# Altium footprint library PCB2021.01270750.PcbLib: 52 footprints (part 3 of 4)
Each footprint in its own frame and in the unit in brackets; x right, y up, seen from the top. Pads: shape width x height; smd on the part's side, far side on the other; paste and mask are expansions set on the pad; w line width, h text height; cw(c..) or ccw(c..) is an arc to the next point about the centre after c.
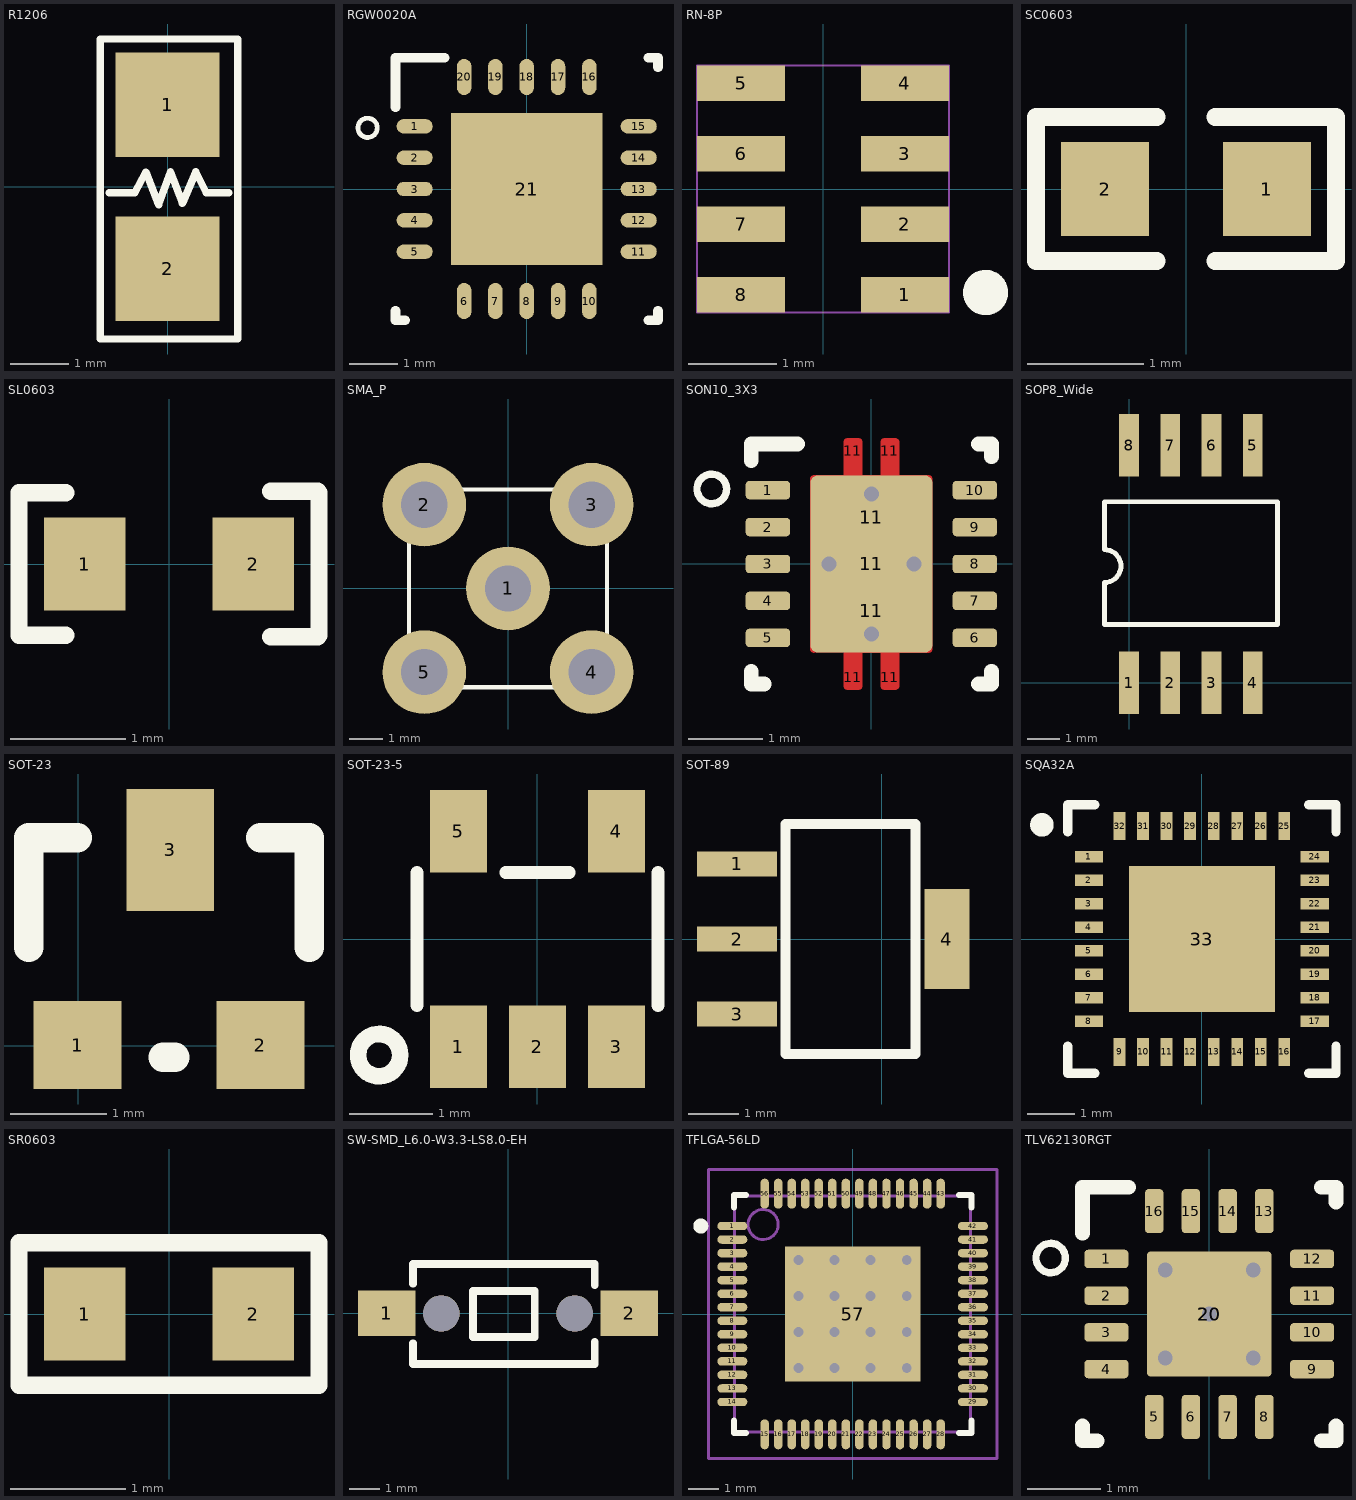
[diagram p2: the footprints below, top view; thin cyan lines are the x and y axes]

## R1206 [mil]
pads (2):
  rect 70x70 smd: 1(0,55) 2(0,-55)
Top Overlay:
  lines w5: -39,-4 -21.87,-4 -14.52,9.77 -6,-12 2,10 10,-11 19,10 26,-4 41,-4 ; -45,-102 -45,99 47,99 47,-102 -45,-102

## RGW0020A [mm]
pads (21):
  oval 0.75x0.3 smd paste+0 mask+0.051: 1(-2.325,1.3) 2(-2.325,0.65) 3(-2.325,0) 4(-2.325,-0.65) 5(-2.325,-1.3) 11(2.325,-1.3) 12(2.325,-0.65) 13(2.325,0) 14(2.325,0.65) 15(2.325,1.3)
  oval 0.3x0.75 smd paste+0 mask+0.051: 6(-1.3,-2.325) 7(-0.65,-2.325) 8(0,-2.325) 9(0.65,-2.325) 10(1.3,-2.325) 16(1.3,2.325) 17(0.65,2.325) 18(0,2.325) 19(-0.65,2.325) 20(-1.3,2.325)
  rect 3.15x3.15 smd paste-1.562 mask+0.051: 21(0,0)
Top Overlay:
  circle w0.1: c-3.302,1.27 r0.2
  lines w0.2: -2.725,-2.525 -2.725,-2.725 -2.525,-2.725 ; -2.725,1.7 -2.725,2.725 -1.7,2.725 ; 2.525,-2.725 2.725,-2.725 2.725,-2.525 ; 2.525,2.725 2.725,2.725 2.725,2.525
Top Paste:
  region: 0.1,-0.1 0.1,-1.468 1.468,-1.468 1.468,-0.1
  region: -0.1,-1.468 -0.1,-0.1 -1.468,-0.1 -1.468,-1.468
  region: -0.1,0.1 -0.1,1.468 -1.468,1.468 -1.468,0.1
  region: 0.1,1.468 0.1,0.1 1.468,0.1 1.468,1.468

## RN-8P [mm] "RN-8P"
height 1.1
pads (8):
  rect 1x0.4 smd: 1(0.929,-1.2) 2(0.929,-0.4) 3(0.929,0.4) 4(0.929,1.2) 5(-0.929,1.2) 6(-0.929,0.4) 7(-0.929,-0.4) 8(-0.929,-1.2)
Top Overlay:
  circle w0.254: c1.844,-1.174 r0.13
Mechanical 8:
  text "5" at -0.929,1.454 h0.64
  text "7" at -0.929,-0.146 h0.64
  text "1" at 0.929,-0.946 h0.64
  text "2" at 0.929,-0.146 h0.64
  text "3" at 0.929,0.654 h0.64
  text "4" at 0.929,1.454 h0.64
  text "6" at -0.929,0.654 h0.64
  text "8" at -0.929,-0.946 h0.64
Mechanical 10:
  lines w0.025: -1.429,-1.4 -1.429,1.4 1.429,1.4 1.429,-1.4 -1.429,-1.4
Mechanical 11:
  lines w0.025: -1.429,-1.4 -1.429,1.4 1.429,1.4 1.429,-1.4 -1.429,-1.4

## SC0603 [mil]
pads (2):
  rect 30x32 smd: 1(27.5,0) 2(-27.5,0)
Top Overlay:
  lines w6: -10,-24.5 -51,-24.5 -51,18.5 -51,24.5 -10,24.5 ; 10,-24.5 51,-24.5 51,-18.5 51,24.5 10,24.5

## SL0603 [mil]
pads (2):
  rect 28x32 smd: 1(-29,0) 2(29,0)
Top Overlay:
  lines w6: -35.5,-24.5 -51.5,-24.5 -51.5,-18.5 -51.5,24.5 -35.5,24.5 ; 35,-25 51,-25 ; 35,25 51,25 ; 51.5,-24.5 51.5,-18.5 51.5,24.5

## SMA_P [mm] "SMA_P"
height 5.842
pads (5):
  round 2.54 hole 1.4: 1(0,0) 2(-2.54,2.54) 3(2.54,2.54) 4(2.54,-2.54) 5(-2.54,-2.54)
Top Overlay:
  lines w0.127: -3,-3 -3,3 3,3 3,-3 -3,-3
Mechanical 9:
  text "1" at -0.254,0 h0.81
  text "3" at 2.286,2.54 h0.81
  text "2" at -2.794,2.54 h0.81
  text "4" at 2.286,-2.54 h0.81
  text "5" at -2.794,-2.54 h0.81

## SON10_3X3 [mm] "SON10_3X3"
pads (17):
  rrect40% 0.6x0.25 smd: 1(-1.4,1) 2(-1.4,0.5) 3(-1.4,0) 4(-1.4,-0.5) 5(-1.4,-1) 6(1.4,-1) 7(1.4,-0.5) 8(1.4,0) 9(1.4,0.5) 10(1.4,1)
  rrect50% 0.25x0.34 on Top Paste: 11(-0.25,1.53) 11(-0.25,-1.53) 11(0.25,-1.53) 11(0.25,1.53)
  rrect50% 1.5x1.06 on Top Paste: 11(0,-0.63) 11(0,0.63)
  rrect12% 1.65x2.4 smd paste-1 mask-2: 11(0,0)
via 0.575,0 diameter 0.406 hole 0.203
via -0.575,0 diameter 0.406 hole 0.203
via 0,0.95 diameter 0.406 hole 0.203
via 0,-0.95 diameter 0.406 hole 0.203
Top Layer:
  region: -0.775,-1.2 -0.375,-1.2 -0.375,-1.65 -0.375,-1.66 -0.367,-1.678 -0.353,-1.692 -0.335,-1.7 -0.325,-1.7 -0.175,-1.7 -0.165,-1.7 -0.147,-1.692 -0.133,-1.678 -0.125,-1.66 -0.125,-1.65 -0.125,-1.2 0.125,-1.2 0.125,-1.65 0.125,-1.66 0.133,-1.678 0.147,-1.692 0.165,-1.7 0.175,-1.7 0.325,-1.7 0.335,-1.7 0.353,-1.692 0.367,-1.678 0.375,-1.66 0.375,-1.65 0.375,-1.2 0.775,-1.2 0.785,-1.2 0.803,-1.192 0.817,-1.178 0.825,-1.16 0.825,-1.15 0.825,1.15 0.825,1.16 0.817,1.178 0.803,1.192 0.785,1.2 0.775,1.2 0.375,1.2 0.375,1.65 0.375,1.66 0.367,1.678 0.353,1.692 0.335,1.7 0.325,1.7 0.175,1.7 0.165,1.7 0.147,1.692 0.133,1.678 0.125,1.66 0.125,1.65 0.125,1.2 -0.125,1.2 -0.125,1.65 -0.125,1.66 -0.133,1.678 -0.147,1.692 -0.165,1.7 -0.175,1.7 -0.325,1.7 -0.335,1.7 -0.353,1.692 -0.367,1.678 -0.375,1.66 -0.375,1.65 -0.375,1.2 -0.775,1.2 -0.785,1.2 -0.803,1.192 -0.817,1.178 -0.825,1.16 -0.825,1.15 -0.825,-1.15 -0.825,-1.16 -0.817,-1.178 -0.803,-1.192 -0.785,-1.2
Top Overlay:
  circle w0.1: c-2.159,1.016 r0.2
  lines w0.2: -1.625,-1.45 -1.625,-1.625 -1.45,-1.625 ; -1.625,1.4 -1.625,1.625 -1,1.625 ; 1.45,-1.625 1.625,-1.625 1.625,-1.45 ; 1.45,1.625 1.625,1.625 1.625,1.45

## SOP8_Wide [mil]
pads (8):
  rect 24x76 smd: 1(0,0) 2(50,0) 3(100,0) 4(150,0) 5(150,287.99) 6(100,287.99) 7(50,287.99) 8(0,287.99)
Top Overlay:
  lines w6: 180,218.5 180,70.5 150,70.5 -30,70.5 -30,121.5 ccw(c-30,141.5) -30,161.5 -30,219.5 180,219.5

## SOT-23 [mil]
pads (3):
  rect 36x36 smd: 1(-0.25,0.3) 2(74.75,0.3)
  rect 36x50 smd: 3(37.75,80.3)
Top Overlay:
  lines w12: -20.25,40.3 -20.25,85.3 -0.25,85.3 ; 34.75,-4.7 39.75,-4.7 ; 74.75,85.3 94.75,85.3 94.75,40.3

## SOT-23-5 [mil] "SOT-23-5"
pads (5):
  rect 27x39 smd: 1(-37.4,-50.98) 2(0,-50.98) 3(37.4,-50.98) 4(37.4,50.98) 5(-37.4,50.98)
Top Overlay:
  circle w7.87: c-75,-55 r10
  lines w6: -57.09,-31.5 -57.09,31.5 ; -15,31.5 15,31.5 ; 57.09,-31.5 57.09,31.5

## SOT-89 [mm] "SOT-89,small package of SOT-23"
height 3
pads (4):
  rect 1.6x0.5 smd: 1(-2.889,1.5) 2(-2.889,0) 3(-2.889,-1.5)
  rect 0.9x2 smd: 4(1.3,0)
Top Overlay:
  lines w0.2: -1.924,-2.3 0.676,-2.3 0.676,2.3 -1.924,2.3 -1.924,-2.3

## SQA32A [mm] "QFN, 32-Leads, Body 5x5mm, Pitch 0.5mm, NSC Recommended"
height 0.8
pads (33):
  rect 0.6x0.25 smd paste-0.125 mask+0.051: 1(-2.4,1.75) 2(-2.4,1.25) 3(-2.4,0.75) 4(-2.4,0.25) 5(-2.4,-0.25) 6(-2.4,-0.75) 7(-2.4,-1.25) 8(-2.4,-1.75) 17(2.4,-1.75) 18(2.4,-1.25) 19(2.4,-0.75) 20(2.4,-0.25) 21(2.4,0.25) 22(2.4,0.75) 23(2.4,1.25) 24(2.4,1.75)
  rect 0.25x0.6 smd paste-0.125 mask+0.051: 9(-1.75,-2.4) 10(-1.25,-2.4) 11(-0.75,-2.4) 12(-0.25,-2.4) 13(0.25,-2.4) 14(0.75,-2.4) 15(1.25,-2.4) 16(1.75,-2.4) 25(1.75,2.4) 26(1.25,2.4) 27(0.75,2.4) 28(0.25,2.4) 29(-0.25,2.4) 30(-0.75,2.4) 31(-1.25,2.4) 32(-1.75,2.4)
  rect 3.1x3.1 smd paste-1.55 mask+0.051: 33(0,0)
Top Overlay:
  circle w0.25: c-3.4,2.425 r0.125
  lines w0.2: -2.85,-2.275 -2.85,-2.85 -2.275,-2.85 ; -2.85,2.275 -2.85,2.85 -2.275,2.85 ; 2.275,-2.85 2.85,-2.85 2.85,-2.275 ; 2.275,2.85 2.85,2.85 2.85,2.275
Top Paste:
  region: 1.876,2.101 1.876,2.701 1.626,2.701 1.626,2.101
  region: 1.376,2.101 1.376,2.701 1.126,2.701 1.126,2.101
  region: 0.876,2.101 0.876,2.701 0.626,2.701 0.626,2.101
  region: 0.376,2.101 0.376,2.701 0.126,2.701 0.126,2.101
  region: -0.124,2.101 -0.124,2.701 -0.374,2.701 -0.374,2.101
  region: -0.624,2.101 -0.624,2.701 -0.874,2.701 -0.874,2.101
  region: -1.124,2.101 -1.124,2.701 -1.374,2.701 -1.374,2.101
  region: -1.624,2.101 -1.624,2.701 -1.874,2.701 -1.874,2.101
  rectangle: -2.699,1.624 -2.099,1.874
  rectangle: -2.699,1.124 -2.099,1.374
  rectangle: -2.699,0.624 -2.099,0.874
  rectangle: -2.699,0.124 -2.099,0.374
  rectangle: -2.699,-0.376 -2.099,-0.126
  rectangle: -2.699,-0.876 -2.099,-0.626
  rectangle: -2.699,-1.376 -2.099,-1.126
  rectangle: -2.699,-1.876 -2.099,-1.626
  region: -1.876,-2.101 -1.876,-2.701 -1.626,-2.701 -1.626,-2.101
  region: -1.376,-2.101 -1.376,-2.701 -1.126,-2.701 -1.126,-2.101
  region: -0.876,-2.101 -0.876,-2.701 -0.626,-2.701 -0.626,-2.101
  region: -0.376,-2.101 -0.376,-2.701 -0.126,-2.701 -0.126,-2.101
  region: 0.124,-2.101 0.124,-2.701 0.374,-2.701 0.374,-2.101
  region: 0.624,-2.101 0.624,-2.701 0.874,-2.701 0.874,-2.101
  region: 1.124,-2.101 1.124,-2.701 1.374,-2.701 1.374,-2.101
  region: 1.624,-2.101 1.624,-2.701 1.874,-2.701 1.874,-2.101
  region: 2.699,-1.624 2.099,-1.624 2.099,-1.874 2.699,-1.874
  region: 2.699,-1.124 2.099,-1.124 2.099,-1.374 2.699,-1.374
  region: 2.699,-0.624 2.099,-0.624 2.099,-0.874 2.699,-0.874
  region: 2.699,-0.124 2.099,-0.124 2.099,-0.374 2.699,-0.374
  region: 2.699,0.376 2.099,0.376 2.099,0.126 2.699,0.126
  region: 2.699,0.876 2.099,0.876 2.099,0.626 2.699,0.626
  region: 2.699,1.376 2.099,1.376 2.099,1.126 2.699,1.126
  region: 2.699,1.876 2.099,1.876 2.099,1.626 2.699,1.626
  rectangle: 0.1,0.1 1.4,1.4
  region: -0.1,1.4 -1.4,1.4 -1.4,0.1 -0.1,0.1
  region: -0.1,-0.1 -1.4,-0.1 -1.4,-1.4 -0.1,-1.4
  rectangle: 0.1,-1.4 1.4,-0.1

## SR0603 [mil]
pads (2):
  rect 28x32 smd: 1(-29,0) 2(29,0)
Top Overlay:
  lines w6: -51.5,-24.5 -51.5,-18.5 -51.5,24.5 45.5,24.5 51.5,24.5 51.5,-18.5 51.5,-24.5 45.5,-24.5 -51.5,-24.5

## SW-SMD_L6.0-W3.3-LS8.0-EH [mm]
pads (4):
  rect 1.9x1.5 smd: 1(-4,0) 2(4,0)
  round 1.2 hole 1.2 unplated: ""(-2.2,0) ""(2.2,0)
Top Overlay:
  lines w0.254: -3.137,-0.981 -3.137,-1.668 2.863,-1.668 2.863,-0.935 ; -3.137,0.981 -3.137,1.632 2.863,1.632 2.863,0.935 ; -1.153,-0.78 -1.153,0.744 0.879,0.744 0.879,-0.78 -1.153,-0.78

## TFLGA-56LD [mm] "QFN, 56-Leads, Body 7.8x7.8mm (max), Pitch 0.45mm, IPC Medium Density"
height 0.9
pads (57):
  oval 1x0.28 smd: 1(-4,2.925) 2(-4,2.475) 3(-4,2.025) 4(-4,1.575) 5(-4,1.125) 6(-4,0.675) 7(-4,0.225) 8(-4,-0.225) 9(-4,-0.675) 10(-4,-1.125) 11(-4,-1.575) 12(-4,-2.025) 13(-4,-2.475) 14(-4,-2.925) 29(4,-2.925) 30(4,-2.475) 31(4,-2.025) 32(4,-1.575) 33(4,-1.125) 34(4,-0.675) 35(4,-0.225) 36(4,0.225) 37(4,0.675) 38(4,1.125) 39(4,1.575) 40(4,2.025) 41(4,2.475) 42(4,2.925)
  oval 0.28x1 smd: 15(-2.925,-4) 16(-2.475,-4) 17(-2.025,-4) 18(-1.575,-4) 19(-1.125,-4) 20(-0.675,-4) 21(-0.225,-4) 22(0.225,-4) 23(0.675,-4) 24(1.125,-4) 25(1.575,-4) 26(2.025,-4) 27(2.475,-4) 28(2.925,-4) 43(2.925,4) 44(2.475,4) 45(2.025,4) 46(1.575,4) 47(1.125,4) 48(0.675,4) 49(0.225,4) 50(-0.225,4) 51(-0.675,4) 52(-1.125,4) 53(-1.575,4) 54(-2.025,4) 55(-2.475,4) 56(-2.925,4)
  rect 4.5x4.5 smd: 57(0,0)
via 1.8,-1.8 diameter 0.66 hole 0.33
via 0.6,-1.8 diameter 0.66 hole 0.33
via -0.6,-1.8 diameter 0.66 hole 0.33
via -1.8,-1.8 diameter 0.66 hole 0.33
via 1.8,-0.6 diameter 0.66 hole 0.33
via 0.6,-0.6 diameter 0.66 hole 0.33
via -0.6,-0.6 diameter 0.66 hole 0.33
via -1.8,-0.6 diameter 0.66 hole 0.33
via 1.8,0.6 diameter 0.66 hole 0.33
via 0.6,0.6 diameter 0.66 hole 0.33
via -0.6,0.6 diameter 0.66 hole 0.33
via -1.8,0.6 diameter 0.66 hole 0.33
via 1.8,1.8 diameter 0.66 hole 0.33
via 0.6,1.8 diameter 0.66 hole 0.33
via -0.6,1.8 diameter 0.66 hole 0.33
via -1.8,1.8 diameter 0.66 hole 0.33
Top Overlay:
  circle w0.25: c-5.05,2.925 r0.125
  lines w0.2: -3.95,-3.54 -3.95,-3.95 -3.54,-3.95 ; -3.95,3.54 -3.95,3.95 -3.54,3.95 ; 3.54,-3.95 3.95,-3.95 3.95,-3.54 ; 3.54,3.95 3.95,3.95 3.95,3.54
Mechanical 13:
  circle w0.1: c-2.975,2.975 r0.5
  lines w0.1: -3.925,-3.925 3.925,-3.925 3.925,3.925 -3.925,3.925 -3.925,-3.925
Mechanical 15:
  lines w0.1: -0.5,0 0.5,0 ; 0,-0.5 0,0.5 ; -4.8,-4.8 4.8,-4.8 4.8,4.8 -4.8,4.8 -4.8,-4.8
3D body: height 0.9, standoff 0.2, extent -3.925,-3.925 3.925,3.925

## TLV62130RGT [mm] "TLV62130RGT"
pads (18):
  rrect40% 0.6x0.25 smd: 1(-1.4,0.75) 2(-1.4,0.25) 3(-1.4,-0.25) 4(-1.4,-0.75) 9(1.4,-0.75) 10(1.4,-0.25) 11(1.4,0.25) 12(1.4,0.75)
  rrect40% 0.25x0.6 smd: 5(-0.75,-1.4) 6(-0.25,-1.4) 7(0.25,-1.4) 8(0.75,-1.4) 13(0.75,1.4) 14(0.25,1.4) 15(-0.25,1.4) 16(-0.75,1.4)
  rrect50% 1.55x1.55 on Top Paste: 20(0,0)
  rrect6% 1.7x1.7 smd paste-0.85: 20(0,0)
via -0.6,0.6 diameter 0.5 hole 0.2
via -0.6,-0.6 diameter 0.5 hole 0.2
via 0.6,-0.6 diameter 0.5 hole 0.2
via 0.6,0.6 diameter 0.5 hole 0.2
via 0,0 diameter 0.5 hole 0.2
Top Overlay:
  circle w0.1: c-2.159,0.762 r0.2
  lines w0.2: -1.725,-1.525 -1.725,-1.725 -1.525,-1.725 ; -1.725,1.1 -1.725,1.725 -1.1,1.725 ; 1.525,-1.725 1.725,-1.725 1.725,-1.525 ; 1.525,1.725 1.725,1.725 1.725,1.525